# Altium schematic symbol library ADSP-BF51x.SchLib: 1 symbol
Pins are listed as number, name and electrical type; pins without a type are passive.

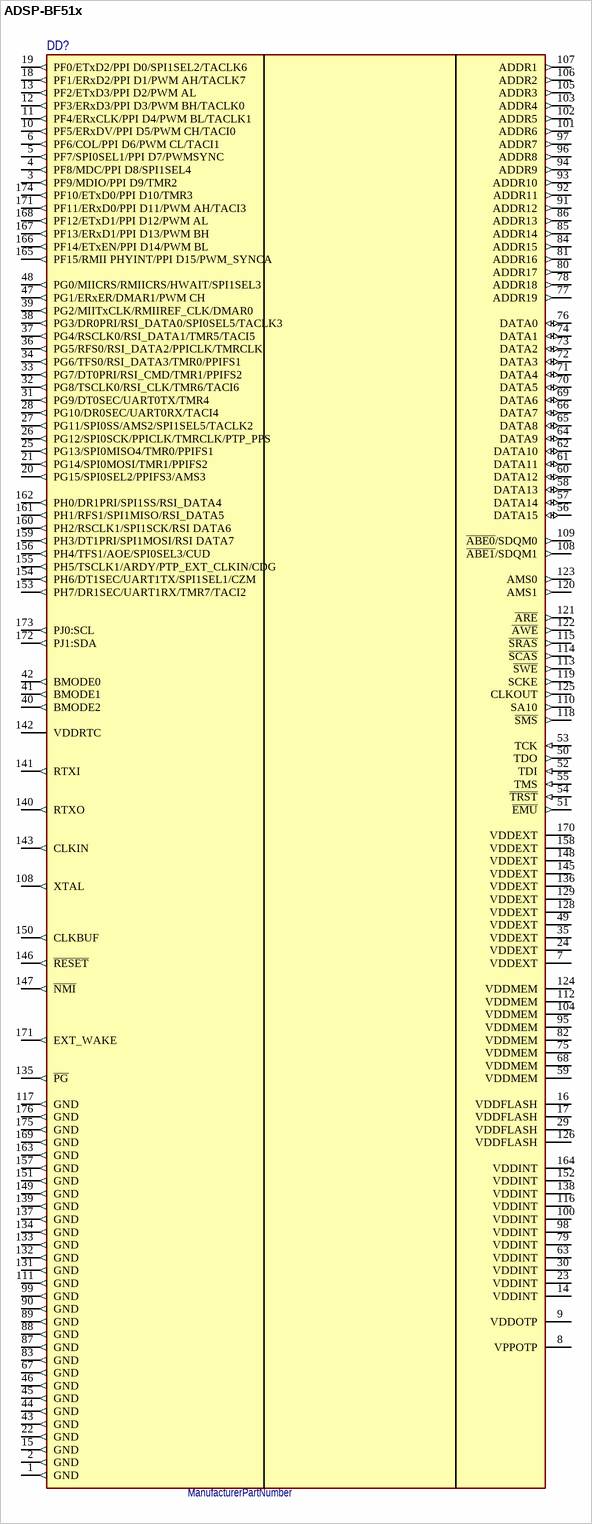
[diagram p0: symbol ADSP-BF51x]

## ADSP-BF51x
designator DD?  (value not drawn)
ManufacturerPartNumber: ManufacturerPartNumber
pins: 1 GND (out), 2 GND (out), 3 PF9/MDIO/PPI D9/TMR2 (out), 4 PF8/MDC/PPI D8/SPI1SEL4 (out), 5 PF7/SPI0SEL1/PPI D7/PWMSYNC (out), 6 PF6/COL/PPI D6/PWM CL/TACI1 (out), 7 VDDEXT (power), 8 VPPOTP (power), 9 VDDOTP (power), 10 PF5/ERxDV/PPI D5/PWM CH/TACI0 (out), 11 PF4/ERxCLK/PPI D4/PWM BL/TACLK1 (out), 12 PF3/ERxD3/PPI D3/PWM BH/TACLK0 (out), 13 PF2/ETxD3/PPI D2/PWM AL (out), 14 VDDINT (power), 15 GND (out), 16 VDDFLASH (power), 17 VDDFLASH (power), 18 PF1/ERxD2/PPI D1/PWM AH/TACLK7 (out), 19 PF0/ETxD2/PPI D0/SPI1SEL2/TACLK6 (out), 20 PG15/SPI0SEL2/PPIFS3/AMS3 (out), 21 PG14/SPI0MOSI/TMR1/PPIFS2 (out), 22 GND (out), 23 VDDINT (power), 24 VDDEXT (power), 25 PG13/SPI0MISO4/TMR0/PPIFS1 (out), 26 PG12/SPI0SCK/PPICLK/TMRCLK/PTP_PPS (out), 27 PG11/SPI0SS/AMS2/SPI1SEL5/TACLK2 (out), 28 PG10/DR0SEC/UART0RX/TACI4 (out), 29 VDDFLASH (power), 30 VDDINT (power), 31 PG9/DT0SEC/UART0TX/TMR4 (out), 32 PG8/TSCLK0/RSI_CLK/TMR6/TACI6 (out), 33 PG7/DT0PRI/RSI_CMD/TMR1/PPIFS2 (out), 34 PG6/TFS0/RSI_DATA3/TMR0/PPIFS1 (out), 35 VDDEXT (power), 36 PG5/RFS0/RSI_DATA2/PPICLK/TMRCLK (out), 37 PG4/RSCLK0/RSI_DATA1/TMR5/TACI5 (out), 38 PG3/DR0PRI/RSI_DATA0/SPI0SEL5/TACLK3 (out), 39 PG2/MIITxCLK/RMIIREF_CLK/DMAR0 (out), 40 BMODE2 (out), 41 BMODE1 (out), 42 BMODE0 (out), 43 GND (out), 44 GND (out), 45 GND (out), 46 GND (out), 47 PG1/ERxER/DMAR1/PWM CH (out), 48 PG0/MIICRS/RMIICRS/HWAIT/SPI1SEL3 (out), 49 VDDEXT (power), 50 TDO (out), 51 ~{EMU} (out), 52 TDI (in), 53 TCK (in), 54 ~{TRST} (in), 55 TMS (in), 56 DATA15 (io), 57 DATA14 (io), 58 DATA13 (io), 59 VDDMEM (power), 60 DATA12 (io), 61 DATA11 (io), 62 DATA10 (io), 63 VDDINT (power), 64 DATA9 (io), 65 DATA8 (io), 66 DATA7 (io), 67 GND (out), 68 VDDMEM (power), 69 DATA6 (io), 70 DATA5 (io), 71 DATA4 (io), 72 DATA3 (io), 73 DATA2 (io), 74 DATA1 (io), 75 VDDMEM (power), 76 DATA0 (io), 77 ADDR19 (out), 78 ADDR18 (out), 79 VDDINT (power), 80 ADDR17 (out), 81 ADDR16 (out), 82 VDDMEM (power), 83 GND (out), 84 ADDR15 (out), 85 ADDR14 (out), 86 ADDR13 (out), 87 GND (out), 88 GND (out), 89 GND (out), 90 GND (out), 91 ADDR12 (out), 92 ADDR11 (out), 93 ADDR10 (out), 94 ADDR9 (out), 95 VDDMEM (power), 96 ADDR8 (out), 97 ADDR7 (out), 98 VDDINT (power), 99 GND (out), 100 VDDINT (power), 101 ADDR6 (out), 102 ADDR5 (out), 103 ADDR4 (out), 104 VDDMEM (power), 105 ADDR3 (out), 106 ADDR2 (out), 107 ADDR1 (out), 108 ~{ABE1}/SDQM1 (out), 108 XTAL (out), 109 ~{ABE0}/SDQM0 (out), 110 SA10 (out), 111 GND (out), 112 VDDMEM (power), 113 ~{SWE} (out), 114 ~{SCAS} (out), 115 ~{SRAS} (out), 116 VDDINT (power), 117 GND (out), 118 ~{SMS} (out), 119 SCKE (out), 120 AMS1 (out), 121 ~{ARE} (out), 122 ~{AWE} (out), 123 AMS0 (out), 124 VDDMEM (power), 125 CLKOUT (out), 126 VDDFLASH (power), 128 VDDEXT (power), 129 VDDEXT (power), 131 GND (out), 132 GND (out), 133 GND (out), 134 GND (out), 135 ~{PG} (out), 136 VDDEXT (power), 137 GND (out), 138 VDDINT (power), 139 GND (out), 140 RTXO (out), 141 RTXI (out), 142 VDDRTC (power), 143 CLKIN (out), 145 VDDEXT (power), 146 ~{RESET} (out), 147 ~{NMI} (out), 148 VDDEXT (power), 149 GND (out), 150 CLKBUF (out), 151 GND (out), 152 VDDINT (power), 153 PH7/DR1SEC/UART1RX/TMR7/TACI2 (out), 154 PH6/DT1SEC/UART1TX/SPI1SEL1/CZM (out), 155 PH5/TSCLK1/ARDY/PTP_EXT_CLKIN/CDG (out), 156 PH4/TFS1/AOE/SPI0SEL3/CUD (out), 157 GND (out), 158 VDDEXT (power), 159 PH3/DT1PRI/SPI1MOSI/RSI DATA7 (out), 160 PH2/RSCLK1/SPI1SCK/RSI DATA6 (out), 161 PH1/RFS1/SPI1MISO/RSI_DATA5 (out), 162 PH0/DR1PRI/SPI1SS/RSI_DATA4 (out), 163 GND (out), 164 VDDINT (power), 165 PF15/RMII PHYINT/PPI D15/PWM_SYNCA (out), 166 PF14/ETxEN/PPI D14/PWM BL (out), 167 PF13/ERxD1/PPI D13/PWM BH (out), 168 PF12/ETxD1/PPI D12/PWM AL (out), 169 GND (out), 170 VDDEXT (power), 171 PF11/ERxD0/PPI D11/PWM AH/TACI3 (out), 171 EXT_WAKE (out), 172 PJ1:SDA (out), 173 PJ0:SCL (out), 174 PF10/ETxD0/PPI D10/TMR3 (out), 175 GND (out), 176 GND (out)